# EAGLE library part PIXHAWK2_MOLEX-47346-0001 (library PX4FMUv2.4)
MICRO USB B, BOTTOM MOUNT
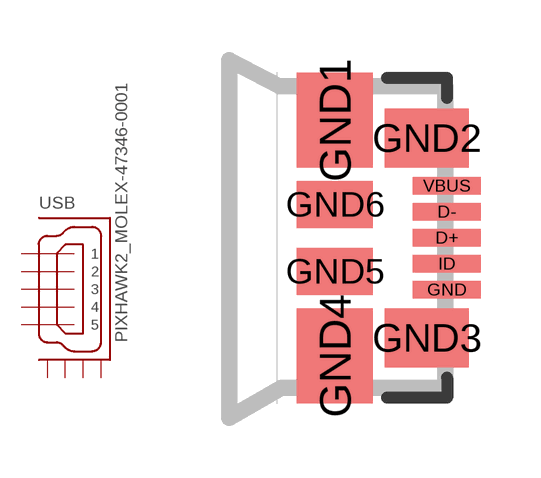
[diagram p17: symbol with the pads of PIXHAWK2_MOLEX-47346-0001; footprint PIXHAWK2_MOLEX-47346-0001]

Designator prefix USB

## PIXHAWK2_MOLEX-47346-0001  [PIXHAWK2_MOLEX-47346-0001]
D+  3
D-  2
GND  5  sup
GND1  GND1
GND2  GND2
GND3  GND3
GND4  GND4
ID  4  pas
VBUS  1  sup

## Footprint PIXHAWK2_MOLEX-47346-0001 (pad centres in mm)
smd 1.7 x 0.44: D+ 2.8,0; D- 2.8,0.65; GND 2.8,-1.3; ID 2.8,-0.65; VBUS 2.8,1.3
smd 1.9 x 2.375: GND1 0,2.95; GND4 0,-2.95
smd 2.1 x 1.475: GND2 2.3,2.5; GND3 2.3,-2.5
smd 1.9 x 1.175: GND5 0,-0.838; GND6 0,0.837